# Altium integrated library 1437566-4.IntLib: 1 symbol
Pins are listed as number, name and electrical type; pins without a type are passive.

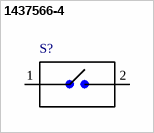
[diagram p0: symbol 1437566-4]

## 1437566-4
designator S?  (value not drawn)
/ Switch Tactile OFF _ON_ SPST Rectangular Button Gull Wing 0.05A 12VDC 1.77N SMD T/R /; MF: TE Connectivity; Configuration_Pole-Throw: Single Pole - Single Throw; MP: FSMSMTR; Contact_Current_Rating: 50 mA; TE_purchase_URL: https://www.te.com/usa-en/product-1437566-4.html?te_bu=Cor&te_type=disp&te_campaign=seda_glo_cor-seda-global-disp-prtnr-fy19-seda-model-bom-cta_sma-317_1&elqCampaignId=32493; Package: None; Availability: Unavailable; SnapEDA_Link: https://www.snapeda.com/parts/FSMSMTR/TE%20Connectivity%20ALCOSWITCH%20Switches/view-part/?ref=snap; Price: None; Value: *
footprint *SW_1437566-4
pins: 1, 2